# Altium integrated library NLAS2750MUTAG.IntLib: 1 symbol
Pins are listed as number, name and electrical type; pins without a type are passive.

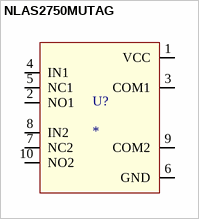
[diagram p0: symbol NLAS2750MUTAG]

## NLAS2750MUTAG
designator U?
footprint UQFN-10
pins: 1 VCC, 2 NO1, 3 COM1, 4 IN1, 5 NC1, 6 GND, 7 NC2, 8 IN2, 9 COM2, 10 NO2